# Altium footprint library 62532020621.PcbLib: 1 footprints
Each footprint in its own frame and in the unit in brackets; x right, y up, seen from the top. Pads: shape width x height; smd on the part's side, far side on the other; paste and mask are expansions set on the pad; w line width, h text height; cw(c..) or ccw(c..) is an arc to the next point about the centre after c.
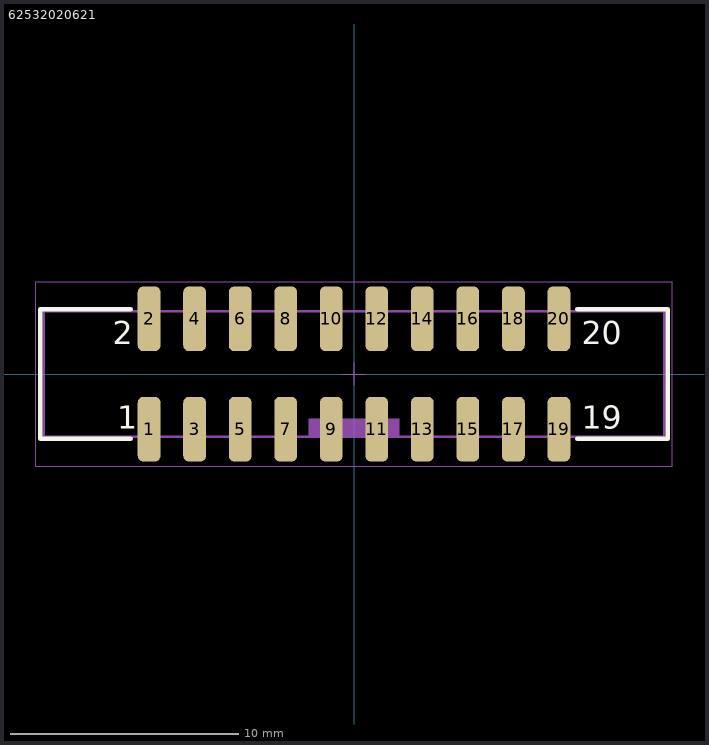
[diagram p0: the footprint, top view; thin cyan lines are the x and y axes]

## 62532020621 [mm]
pads (20):
  rrect50% 1x2.85 smd: 1(-9,-2.425) 2(-9,2.425) 3(-7,-2.425) 4(-7,2.425) 5(-5,-2.425) 6(-5,2.425) 7(-3,-2.425) 8(-3,2.425) 9(-1,-2.425) 10(-1,2.425) 11(1,-2.425) 12(1,2.425) 13(3,-2.425) 14(3,2.425) 15(5,-2.425) 16(5,2.425) 17(7,-2.425) 18(7,2.425) 19(9,-2.425) 20(9,2.425)
Top Overlay:
  lines w0.2: -9.8,-2.85 -13.775,-2.85 -13.775,2.85 -9.8,2.85 ; 9.8,-2.85 13.775,-2.85 13.775,2.85 9.8,2.85
  text "19" at 10,-2.4 h1.02
  text "20" at 10,1.3 h1.02
  text "2" at -10.6,1.3 h1.02
  text "1" at -10.4,-2.4 h1.02
Top Assembly:
  rectangle: -2,-2.75 2,-1.95
  lines w0.1: -9.25,-2.75 -9.25,-3.75 -8.75,-3.75 -8.75,-2.75 ; -9.25,2.75 -9.25,3.75 -8.75,3.75 -8.75,2.75 ; -7.25,-2.75 -7.25,-3.75 -6.75,-3.75 -6.75,-2.75 ; -7.25,2.75 -7.25,3.75 -6.75,3.75 -6.75,2.75 ; -5.25,-2.75 -5.25,-3.75 -4.75,-3.75 -4.75,-2.75 ; -5.25,2.75 -5.25,3.75 -4.75,3.75 -4.75,2.75 ; -3.25,-2.75 -3.25,-3.75 -2.75,-3.75 -2.75,-2.75 ; -3.25,2.75 -3.25,3.75 -2.75,3.75 -2.75,2.75 ; -1.25,-2.75 -1.25,-3.75 -0.75,-3.75 -0.75,-2.75 ; -1.25,2.75 -1.25,3.75 -0.75,3.75 -0.75,2.75 ; 0.75,-2.75 0.75,-3.75 1.25,-3.75 1.25,-2.75 ; 0.75,2.75 0.75,3.75 1.25,3.75 1.25,2.75 ; 2.75,-2.75 2.75,-3.75 3.25,-3.75 3.25,-2.75 ; 2.75,2.75 2.75,3.75 3.25,3.75 3.25,2.75 ; 4.75,-2.75 4.75,-3.75 5.25,-3.75 5.25,-2.75 ; 4.75,2.75 4.75,3.75 5.25,3.75 5.25,2.75 ; 6.75,-2.75 6.75,-3.75 7.25,-3.75 7.25,-2.75 ; 6.75,2.75 6.75,3.75 7.25,3.75 7.25,2.75 ; 8.75,-2.75 8.75,-3.75 9.25,-3.75 9.25,-2.75 ; 8.75,2.75 8.75,3.75 9.25,3.75 9.25,2.75 ; -13.625,-2.75 13.625,-2.75 13.625,2.75 -13.625,2.75 -13.625,-2.75
Top Courtyard:
  lines w0.05: -0.5,0 0.5,0 ; 0,-0.5 0,0.5 ; -13.975,-4.05 13.975,-4.05 13.975,4.05 -13.975,4.05 -13.975,-4.05
3D body "62532020621 (rev1).stp": height 8.55, standoff 0, extent -13.625,-3.75 13.625,3.75